# Altium schematic symbol library MergenElektronik_Diodes_SchottkyDiodes.SchLib: 3 symbols
Pins are listed as number, name and electrical type; pins without a type are passive.

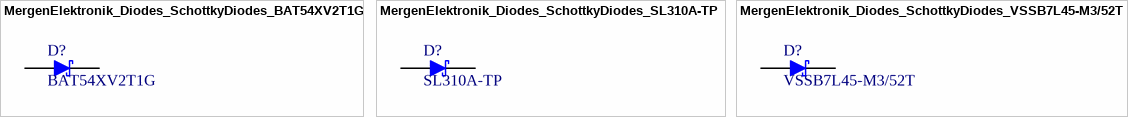
[diagram p0: symbols MergenElektronik_Diodes_SchottkyDiodes_BAT54XV2T1G to MergenElektronik_Diodes_SchottkyDiodes_VSSB7L45-M3/52T]

## MergenElektronik_Diodes_SchottkyDiodes_BAT54XV2T1G
designator D?, comment BAT54XV2T1G
Mergen Elektronik - Diodes - Schottky Diodes - BAT54XV2T1G; Manufacturer: onsemi; Voltage Rated: 100V; Current Rating: 200mA; Value: VSSB7L45-M3/52T; Digi-Key Number: BAT54XV2T1GOSCT-ND; Manufacturer Number: BAT54XV2T1G; Model: Schottky Diodes; Mounting Type: Surface Mount; Package: SOD-523; Temperature: -55°C up to +150°C; Mouser Number: 863-BAT54XV2T1G; Farnell Number: 1459034; Supplier 1: Digikey; Supplier 2: Mouser; Supplier Part Number 1: BAT54XV2T1GOSCT-ND; Supplier Part Number 2: 863-SBAT54XV2T1G
footprint MergenElektronik_Diodes_SchottkyDiodes_SOD-523 (SOD-523)
pins: 1 ANOT, 2 KATOT

## MergenElektronik_Diodes_SchottkyDiodes_SL310A-TP
designator D?, comment SL310A-TP
Mergen Elektronik - Diodes - Schottky Diodes - SL310A-TP; Manufacturer: Micro Commercial Co; Voltage Rated: 100V; Current Rating: 3A; Value: VSSB7L45-M3/52T; Digi-Key Number: SL310A-TPMSTR-ND; Manufacturer Number: SL310A-TP; Model: Schottky Diodes; Mounting Type: Surface Mount; Package: DO-214AC(SMA); Temperature: -55°C up to +150°C; Supplier 1: Digikey; Supplier 2: Mouser; Supplier Part Number 1: SL310A-TPMSDKR-ND; Supplier Part Number 2: 833-SL310A-TP; Mouser Number: 833-SL310A-TP
footprint MergenElektronik_Diodes_SchottkyDiodes_DO-214AC (SMA) (DO-214AC (SMA))
pins: 1 ANOT, 2 KATOT

## MergenElektronik_Diodes_SchottkyDiodes_VSSB7L45-M3/52T
designator D?, comment VSSB7L45-M3/52T
Mergen Elektronik - Diodes - Schottky Diodes - VSSB7L45-M3/52T; Manufacturer: Vishay General Semiconductor - Diodes Division; Voltage Rated: 45V; Current Rating: 3.8A; Digi-Key Number: VSSB7L45-M3/52TGICT-ND; Manufacturer Number: VSSB7L45-M3/52T; Model: Schottky Diodes; Mounting Type: Surface Mount; Package: DO-214AA(SMB); Temperature: -40°C up to +150°C; Supplier 1: Digi-Key; Supplier Part Number 1: VSSB7L45-M3/52TGICT-ND; Value: VSSB7L45-M3/52T
footprint MergenElektronik_Diodes_SchottkyDiodes_DO-214AA (SMB) (DO-214AA (SMB))
pins: 1 ANOT, 2 KATOT